# Altium integrated library Analog Devices RF IF Direct Digital Synthesis.IntLib: 76 symbols (part 2 of 9)
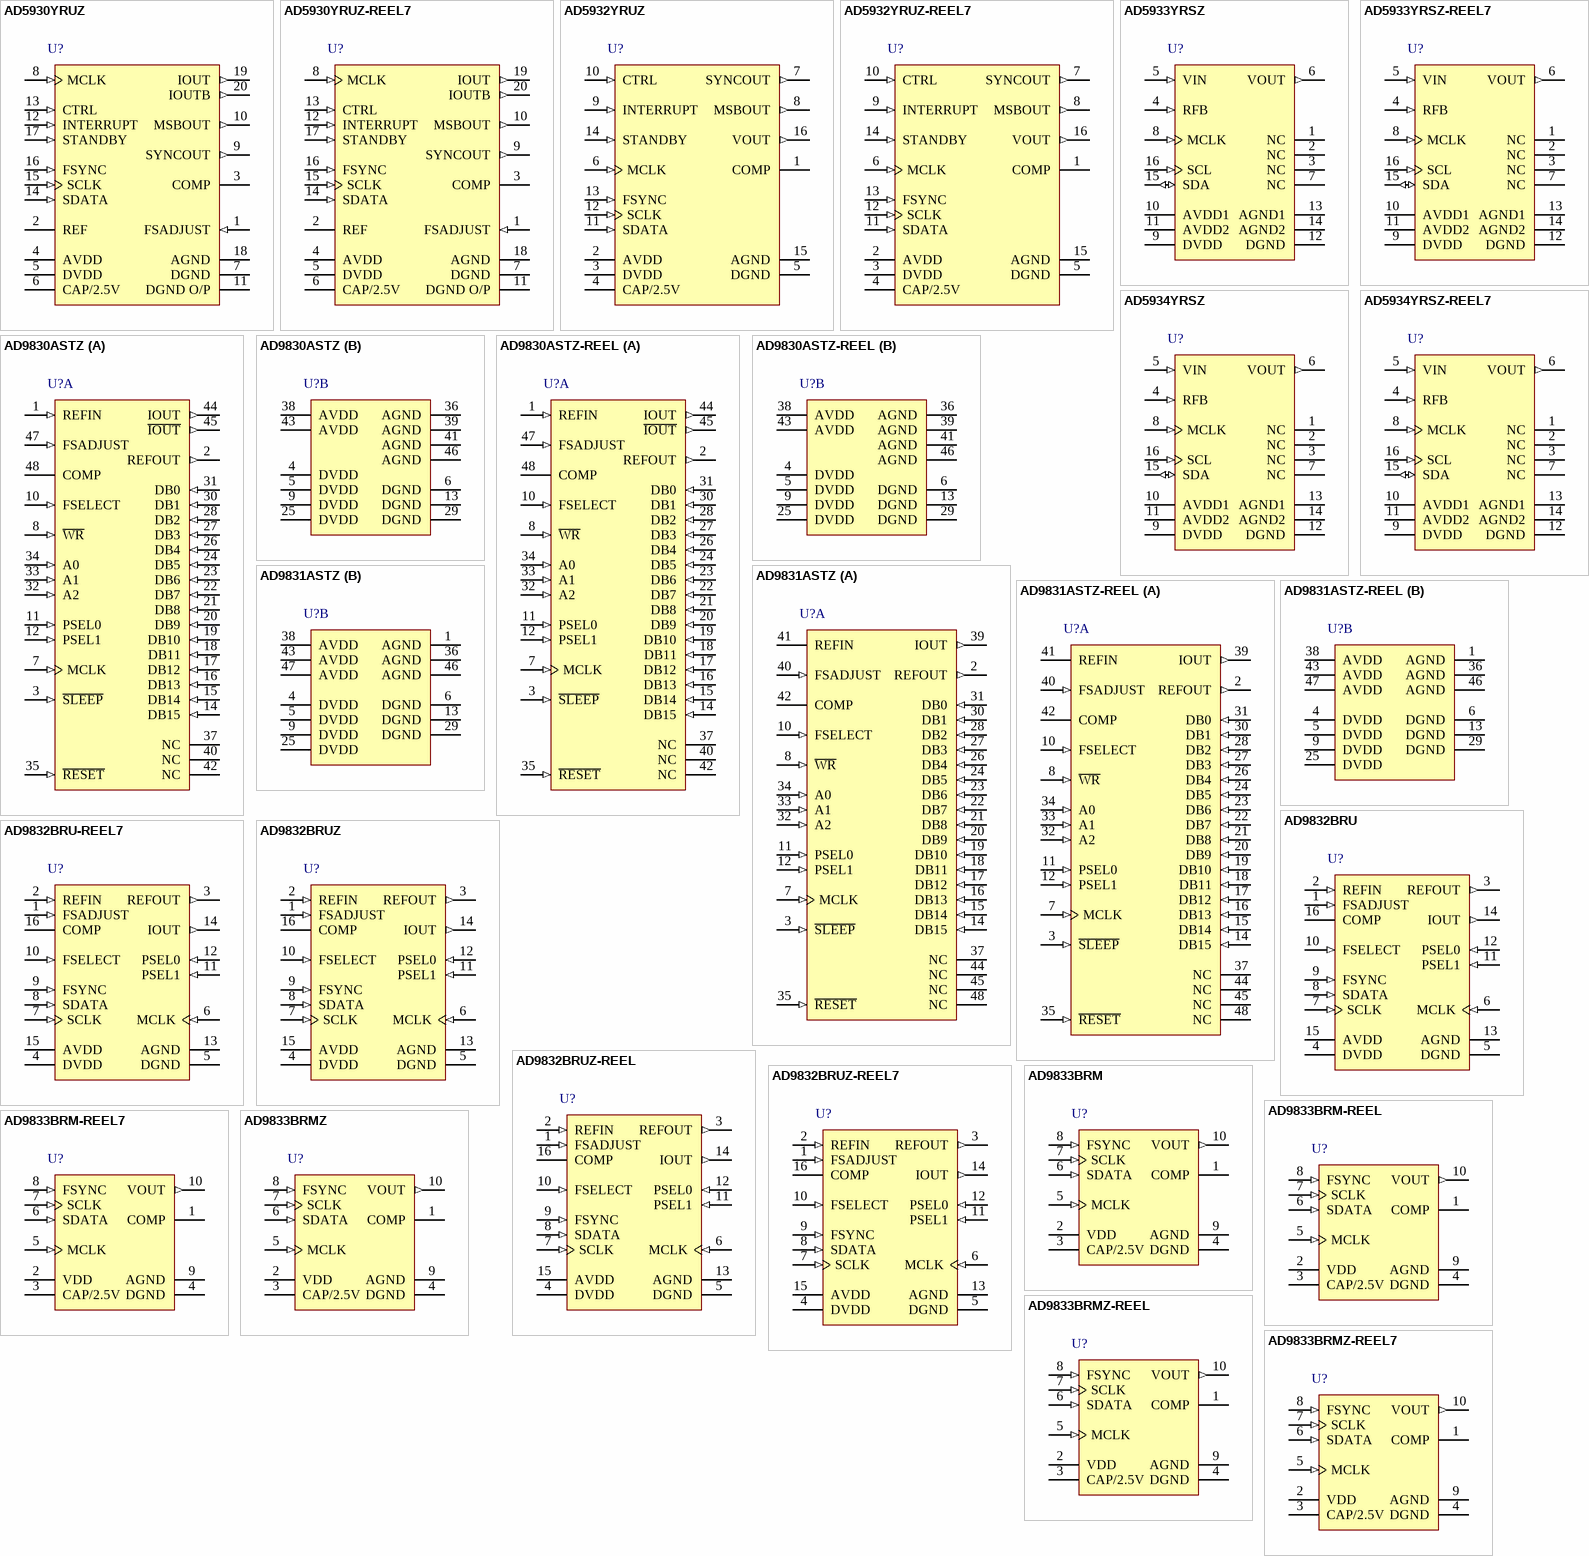
[diagram p6: symbols AD5930YRUZ to AD9833BRMZ-REEL7]

## AD9832BRU
designator U?
25 MHz Direct Digital Synthesizer, Waveform Generator, 10-Bit, Serial, RU-16, 96 Tube; Master fclk: 25MHz; Resolution (Bits): 10bit; Tuning Word Width (bits): 32bit; REFCLK Multiplier: No; Compliance Range (V): 1.35V; FS Iout (mA nom): 4mA; I Supply total (max): 15mA; DatasheetVersion: Rev. C; PackageVersion: Nov-2002; PackageReference: RU-16; PackageDescription: 16-Lead Thin Shrink Small Outline Package [TSSOP]; I/O Interface: Serial; Code_JEDEC: MO-153AB; ComponentLink1Description: Manufacturer URL; ComponentLink1URL: www.analog.com; ComponentLink2Description: Datasheet; ComponentLink2URL: http://www.analog.com/static/imported-files/data_sheets/AD9832.pdf; ComponentLink3Description: Package Specification; ComponentLink3URL: http://www.analog.com/static/imported-files/packages/36244347913743854010197452789RU16.pdf
footprint ADI-RU-16_N (TSOP, 16-Leads, Body 5x4.4mm, Pitch 0.65mm, IPC Medium Density)
footprint ADI-RU-16_L (TSOP, 16-Leads, Body 5x4.4mm, Pitch 0.65mm, IPC High Density)
footprint ADI-RU-16_M (TSOP, 16-Leads, Body 5x4.4mm, Pitch 0.65mm, IPC Low Density)
pins: 1 FSADJUST (in) "Full-Scale Adjust Control. A resistor (RSET) is connected between this pin and AGND. This determines the  magnitude of the full-scale DAC current. [see datasheet]", 2 REFIN (in) "Voltage Reference Input. The AD9832 can be used with either the on-board reference, which is available from   the REFOUT pin, or an external reference. [see datasheet]", 3 REFOUT (out) "Voltage Reference Output. The AD9832 has an on-board reference of value 1.21 V nominal. The reference is  available on the REFOUT pin. [see datasheet]", 4 DVDD (power) "Positive Power Supply for the Digital Section. A 0.1 uF decoupling capacitor should be connected between   DVDD and DGND. DVDD can have a value of 5 V +/- 10% or 3.3 V +/- 0%", 5 DGND (power) "Digital Ground", 6 MCLK (in) "Digital Clock Input. DDS output frequencies are expressed as a binary fraction of the frequency of MCLK. This  clock determines the output frequency accuracy and phase noise", 7 SCLK (in) "Serial Clock, Logic Input. Data is clocked into the AD9832 on each falling SCLK edge.", 8 SDATA (in) "Serial Data In, Logic Input. The 16-bit serial data-word is applied to this input.", 9 FSYNC (in) "Data Synchronization Signal, Logic Input. When this input goes low, the internal logic is informed that  a new word is being loaded into the devic", 10 FSELECT (in) "Frequency Select Input. FSELECT controls which frequency register, FREQ0 or FREQ1, is used in the phase  accumulator. The frequency register to be used can be selected using the FSELECT pin or the FSELECT bit. [see datasheet]", 11 PSEL1 (in) "Phase Select Input. The AD9832 has four phase registers. These registers can be used to alter the value being  input to the SIN ROM. [see datasheet]", 12 PSEL0 (in) "Phase Select Input. The AD9832 has four phase registers. These registers can be used to alter the value being  input to the SIN ROM. [see datasheet]", 13 AGND (power) "Analog Ground", 14 IOUT (out) "Current Output. This is a high impedance current source. A load resistor should be connected between IOUT and AGN", 15 AVDD (power) "Positive Power Supply for the Analog Section. A 0.1 uF decoupling capacitor should be connected between  AVDD and AGND. AVDD can have a value of 5 V +/- 10% or 3.3 V +/- 10", 16 COMP "Compensation Pin. This is a compensation pin for the internal reference amplifier. A 10 nF decoupling ceramic capacitor should be connected between COMP and AVDD."

## AD9832BRU-REEL7
designator U?
25 MHz Direct Digital Synthesizer, Waveform Generator, 10-Bit, Serial, RU-16, 1000 Reel; Master fclk: 25MHz; Resolution (Bits): 10bit; Tuning Word Width (bits): 32bit; REFCLK Multiplier: No; Compliance Range (V): 1.35V; FS Iout (mA nom): 4mA; I Supply total (max): 15mA; DatasheetVersion: Rev. C; PackageVersion: Nov-2002; PackageReference: RU-16; PackageDescription: 16-Lead Thin Shrink Small Outline Package [TSSOP]; I/O Interface: Serial; Code_JEDEC: MO-153AB; ComponentLink1Description: Manufacturer URL; ComponentLink1URL: www.analog.com; ComponentLink2Description: Datasheet; ComponentLink2URL: http://www.analog.com/static/imported-files/data_sheets/AD9832.pdf; ComponentLink3Description: Package Specification; ComponentLink3URL: http://www.analog.com/static/imported-files/packages/36244347913743854010197452789RU16.pdf
footprint ADI-RU-16_N (TSOP, 16-Leads, Body 5x4.4mm, Pitch 0.65mm, IPC Medium Density)
footprint ADI-RU-16_L (TSOP, 16-Leads, Body 5x4.4mm, Pitch 0.65mm, IPC High Density)
footprint ADI-RU-16_M (TSOP, 16-Leads, Body 5x4.4mm, Pitch 0.65mm, IPC Low Density)
pins: 1 FSADJUST (in) "Full-Scale Adjust Control. A resistor (RSET) is connected between this pin and AGND. This determines the  magnitude of the full-scale DAC current. [see datasheet]", 2 REFIN (in) "Voltage Reference Input. The AD9832 can be used with either the on-board reference, which is available from   the REFOUT pin, or an external reference. [see datasheet]", 3 REFOUT (out) "Voltage Reference Output. The AD9832 has an on-board reference of value 1.21 V nominal. The reference is  available on the REFOUT pin. [see datasheet]", 4 DVDD (power) "Positive Power Supply for the Digital Section. A 0.1 uF decoupling capacitor should be connected between   DVDD and DGND. DVDD can have a value of 5 V +/- 10% or 3.3 V +/- 0%", 5 DGND (power) "Digital Ground", 6 MCLK (in) "Digital Clock Input. DDS output frequencies are expressed as a binary fraction of the frequency of MCLK. This  clock determines the output frequency accuracy and phase noise", 7 SCLK (in) "Serial Clock, Logic Input. Data is clocked into the AD9832 on each falling SCLK edge.", 8 SDATA (in) "Serial Data In, Logic Input. The 16-bit serial data-word is applied to this input.", 9 FSYNC (in) "Data Synchronization Signal, Logic Input. When this input goes low, the internal logic is informed that  a new word is being loaded into the devic", 10 FSELECT (in) "Frequency Select Input. FSELECT controls which frequency register, FREQ0 or FREQ1, is used in the phase  accumulator. The frequency register to be used can be selected using the FSELECT pin or the FSELECT bit. [see datasheet]", 11 PSEL1 (in) "Phase Select Input. The AD9832 has four phase registers. These registers can be used to alter the value being  input to the SIN ROM. [see datasheet]", 12 PSEL0 (in) "Phase Select Input. The AD9832 has four phase registers. These registers can be used to alter the value being  input to the SIN ROM. [see datasheet]", 13 AGND (power) "Analog Ground", 14 IOUT (out) "Current Output. This is a high impedance current source. A load resistor should be connected between IOUT and AGN", 15 AVDD (power) "Positive Power Supply for the Analog Section. A 0.1 uF decoupling capacitor should be connected between  AVDD and AGND. AVDD can have a value of 5 V +/- 10% or 3.3 V +/- 10", 16 COMP "Compensation Pin. This is a compensation pin for the internal reference amplifier. A 10 nF decoupling ceramic capacitor should be connected between COMP and AVDD."

## AD9832BRUZ
designator U?
25 MHz Direct Digital Synthesizer, Waveform Generator, 10-Bit, Serial, RU-16, 96 Tube, Pb-Free; Master fclk: 25MHz; Resolution (Bits): 10bit; Tuning Word Width (bits): 32bit; REFCLK Multiplier: No; Compliance Range (V): 1.35V; FS Iout (mA nom): 4mA; I Supply total (max): 15mA; DatasheetVersion: Rev. C; PackageVersion: Nov-2002; PackageReference: RU-16; PackageDescription: 16-Lead Thin Shrink Small Outline Package [TSSOP]; I/O Interface: Serial; Code_JEDEC: MO-153AB; ComponentLink1Description: Manufacturer URL; ComponentLink1URL: www.analog.com; ComponentLink2Description: Datasheet; ComponentLink2URL: http://www.analog.com/static/imported-files/data_sheets/AD9832.pdf; ComponentLink3Description: Package Specification; ComponentLink3URL: http://www.analog.com/static/imported-files/packages/36244347913743854010197452789RU16.pdf
footprint ADI-RU-16_N (TSOP, 16-Leads, Body 5x4.4mm, Pitch 0.65mm, IPC Medium Density)
footprint ADI-RU-16_L (TSOP, 16-Leads, Body 5x4.4mm, Pitch 0.65mm, IPC High Density)
footprint ADI-RU-16_M (TSOP, 16-Leads, Body 5x4.4mm, Pitch 0.65mm, IPC Low Density)
pins: 1 FSADJUST (in) "Full-Scale Adjust Control. A resistor (RSET) is connected between this pin and AGND. This determines the  magnitude of the full-scale DAC current. [see datasheet]", 2 REFIN (in) "Voltage Reference Input. The AD9832 can be used with either the on-board reference, which is available from   the REFOUT pin, or an external reference. [see datasheet]", 3 REFOUT (out) "Voltage Reference Output. The AD9832 has an on-board reference of value 1.21 V nominal. The reference is  available on the REFOUT pin. [see datasheet]", 4 DVDD (power) "Positive Power Supply for the Digital Section. A 0.1 uF decoupling capacitor should be connected between   DVDD and DGND. DVDD can have a value of 5 V +/- 10% or 3.3 V +/- 0%", 5 DGND (power) "Digital Ground", 6 MCLK (in) "Digital Clock Input. DDS output frequencies are expressed as a binary fraction of the frequency of MCLK. This  clock determines the output frequency accuracy and phase noise", 7 SCLK (in) "Serial Clock, Logic Input. Data is clocked into the AD9832 on each falling SCLK edge.", 8 SDATA (in) "Serial Data In, Logic Input. The 16-bit serial data-word is applied to this input.", 9 FSYNC (in) "Data Synchronization Signal, Logic Input. When this input goes low, the internal logic is informed that  a new word is being loaded into the devic", 10 FSELECT (in) "Frequency Select Input. FSELECT controls which frequency register, FREQ0 or FREQ1, is used in the phase  accumulator. The frequency register to be used can be selected using the FSELECT pin or the FSELECT bit. [see datasheet]", 11 PSEL1 (in) "Phase Select Input. The AD9832 has four phase registers. These registers can be used to alter the value being  input to the SIN ROM. [see datasheet]", 12 PSEL0 (in) "Phase Select Input. The AD9832 has four phase registers. These registers can be used to alter the value being  input to the SIN ROM. [see datasheet]", 13 AGND (power) "Analog Ground", 14 IOUT (out) "Current Output. This is a high impedance current source. A load resistor should be connected between IOUT and AGN", 15 AVDD (power) "Positive Power Supply for the Analog Section. A 0.1 uF decoupling capacitor should be connected between  AVDD and AGND. AVDD can have a value of 5 V +/- 10% or 3.3 V +/- 10", 16 COMP "Compensation Pin. This is a compensation pin for the internal reference amplifier. A 10 nF decoupling ceramic capacitor should be connected between COMP and AVDD."

## AD9832BRUZ-REEL
designator U?
25 MHz Direct Digital Synthesizer, Waveform Generator, 10-Bit, Serial, RU-16, 2500 Reel, Pb-Free; Master fclk: 25MHz; Resolution (Bits): 10bit; Tuning Word Width (bits): 32bit; REFCLK Multiplier: No; Compliance Range (V): 1.35V; FS Iout (mA nom): 4mA; I Supply total (max): 15mA; DatasheetVersion: Rev. C; PackageVersion: Nov-2002; PackageReference: RU-16; PackageDescription: 16-Lead Thin Shrink Small Outline Package [TSSOP]; I/O Interface: Serial; Code_JEDEC: MO-153AB; ComponentLink1Description: Manufacturer URL; ComponentLink1URL: www.analog.com; ComponentLink2Description: Datasheet; ComponentLink2URL: http://www.analog.com/static/imported-files/data_sheets/AD9832.pdf; ComponentLink3Description: Package Specification; ComponentLink3URL: http://www.analog.com/static/imported-files/packages/36244347913743854010197452789RU16.pdf
footprint ADI-RU-16_N (TSOP, 16-Leads, Body 5x4.4mm, Pitch 0.65mm, IPC Medium Density)
footprint ADI-RU-16_L (TSOP, 16-Leads, Body 5x4.4mm, Pitch 0.65mm, IPC High Density)
footprint ADI-RU-16_M (TSOP, 16-Leads, Body 5x4.4mm, Pitch 0.65mm, IPC Low Density)
pins: 1 FSADJUST (in) "Full-Scale Adjust Control. A resistor (RSET) is connected between this pin and AGND. This determines the  magnitude of the full-scale DAC current. [see datasheet]", 2 REFIN (in) "Voltage Reference Input. The AD9832 can be used with either the on-board reference, which is available from   the REFOUT pin, or an external reference. [see datasheet]", 3 REFOUT (out) "Voltage Reference Output. The AD9832 has an on-board reference of value 1.21 V nominal. The reference is  available on the REFOUT pin. [see datasheet]", 4 DVDD (power) "Positive Power Supply for the Digital Section. A 0.1 uF decoupling capacitor should be connected between   DVDD and DGND. DVDD can have a value of 5 V +/- 10% or 3.3 V +/- 0%", 5 DGND (power) "Digital Ground", 6 MCLK (in) "Digital Clock Input. DDS output frequencies are expressed as a binary fraction of the frequency of MCLK. This  clock determines the output frequency accuracy and phase noise", 7 SCLK (in) "Serial Clock, Logic Input. Data is clocked into the AD9832 on each falling SCLK edge.", 8 SDATA (in) "Serial Data In, Logic Input. The 16-bit serial data-word is applied to this input.", 9 FSYNC (in) "Data Synchronization Signal, Logic Input. When this input goes low, the internal logic is informed that  a new word is being loaded into the devic", 10 FSELECT (in) "Frequency Select Input. FSELECT controls which frequency register, FREQ0 or FREQ1, is used in the phase  accumulator. The frequency register to be used can be selected using the FSELECT pin or the FSELECT bit. [see datasheet]", 11 PSEL1 (in) "Phase Select Input. The AD9832 has four phase registers. These registers can be used to alter the value being  input to the SIN ROM. [see datasheet]", 12 PSEL0 (in) "Phase Select Input. The AD9832 has four phase registers. These registers can be used to alter the value being  input to the SIN ROM. [see datasheet]", 13 AGND (power) "Analog Ground", 14 IOUT (out) "Current Output. This is a high impedance current source. A load resistor should be connected between IOUT and AGN", 15 AVDD (power) "Positive Power Supply for the Analog Section. A 0.1 uF decoupling capacitor should be connected between  AVDD and AGND. AVDD can have a value of 5 V +/- 10% or 3.3 V +/- 10", 16 COMP "Compensation Pin. This is a compensation pin for the internal reference amplifier. A 10 nF decoupling ceramic capacitor should be connected between COMP and AVDD."

## AD9832BRUZ-REEL7
designator U?
25 MHz Direct Digital Synthesizer, Waveform Generator, 10-Bit, Serial, RU-16, 1000 Reel, Pb-Free; Master fclk: 25MHz; Resolution (Bits): 10bit; Tuning Word Width (bits): 32bit; REFCLK Multiplier: No; Compliance Range (V): 1.35V; FS Iout (mA nom): 4mA; I Supply total (max): 15mA; DatasheetVersion: Rev. C; PackageVersion: Nov-2002; PackageReference: RU-16; PackageDescription: 16-Lead Thin Shrink Small Outline Package [TSSOP]; I/O Interface: Serial; Code_JEDEC: MO-153AB; ComponentLink1Description: Manufacturer URL; ComponentLink1URL: www.analog.com; ComponentLink2Description: Datasheet; ComponentLink2URL: http://www.analog.com/static/imported-files/data_sheets/AD9832.pdf; ComponentLink3Description: Package Specification; ComponentLink3URL: http://www.analog.com/static/imported-files/packages/36244347913743854010197452789RU16.pdf
footprint ADI-RU-16_N (TSOP, 16-Leads, Body 5x4.4mm, Pitch 0.65mm, IPC Medium Density)
footprint ADI-RU-16_L (TSOP, 16-Leads, Body 5x4.4mm, Pitch 0.65mm, IPC High Density)
footprint ADI-RU-16_M (TSOP, 16-Leads, Body 5x4.4mm, Pitch 0.65mm, IPC Low Density)
pins: 1 FSADJUST (in) "Full-Scale Adjust Control. A resistor (RSET) is connected between this pin and AGND. This determines the  magnitude of the full-scale DAC current. [see datasheet]", 2 REFIN (in) "Voltage Reference Input. The AD9832 can be used with either the on-board reference, which is available from   the REFOUT pin, or an external reference. [see datasheet]", 3 REFOUT (out) "Voltage Reference Output. The AD9832 has an on-board reference of value 1.21 V nominal. The reference is  available on the REFOUT pin. [see datasheet]", 4 DVDD (power) "Positive Power Supply for the Digital Section. A 0.1 uF decoupling capacitor should be connected between   DVDD and DGND. DVDD can have a value of 5 V +/- 10% or 3.3 V +/- 0%", 5 DGND (power) "Digital Ground", 6 MCLK (in) "Digital Clock Input. DDS output frequencies are expressed as a binary fraction of the frequency of MCLK. This  clock determines the output frequency accuracy and phase noise", 7 SCLK (in) "Serial Clock, Logic Input. Data is clocked into the AD9832 on each falling SCLK edge.", 8 SDATA (in) "Serial Data In, Logic Input. The 16-bit serial data-word is applied to this input.", 9 FSYNC (in) "Data Synchronization Signal, Logic Input. When this input goes low, the internal logic is informed that  a new word is being loaded into the devic", 10 FSELECT (in) "Frequency Select Input. FSELECT controls which frequency register, FREQ0 or FREQ1, is used in the phase  accumulator. The frequency register to be used can be selected using the FSELECT pin or the FSELECT bit. [see datasheet]", 11 PSEL1 (in) "Phase Select Input. The AD9832 has four phase registers. These registers can be used to alter the value being  input to the SIN ROM. [see datasheet]", 12 PSEL0 (in) "Phase Select Input. The AD9832 has four phase registers. These registers can be used to alter the value being  input to the SIN ROM. [see datasheet]", 13 AGND (power) "Analog Ground", 14 IOUT (out) "Current Output. This is a high impedance current source. A load resistor should be connected between IOUT and AGN", 15 AVDD (power) "Positive Power Supply for the Analog Section. A 0.1 uF decoupling capacitor should be connected between  AVDD and AGND. AVDD can have a value of 5 V +/- 10% or 3.3 V +/- 10", 16 COMP "Compensation Pin. This is a compensation pin for the internal reference amplifier. A 10 nF decoupling ceramic capacitor should be connected between COMP and AVDD."

## AD9833BRM
designator U?
Low Power, 12.65 mW, 2.3 V to 5.5 V, Programmable Waveform Generator, 10-Bit, Serial, RM-10, 50 Tube; Master fclk: 25MHz; Resolution (Bits): 10bit; Tuning Word Width (bits): 28bit; REFCLK Multiplier: No; Compliance Range (V): 650mV; FS Iout (mA nom): 3mA; I Supply total (max): 5.5mA; DatasheetVersion: Rev. D; PackageVersion: 5/8/2005; PackageReference: RM-10; PackageDescription: 10-Lead Mini Small Outline Package [MSOP]; I/O Interface: Serial; Code_JEDEC: MO-187-BA; ComponentLink1Description: Manufacturer URL; ComponentLink1URL: www.analog.com; ComponentLink2Description: Datasheet; ComponentLink2URL: http://www.analog.com/static/imported-files/data_sheets/AD9833.pdf; ComponentLink3Description: Package Specification; ComponentLink3URL: http://www.analog.com/static/imported-files/packages/PKG_PDF/MSOP%28RM%29/RM_10.pdf
footprint ADI-RM-10_N (TSSOP, 10-Leads, Body 3x3mm, Pitch 0.5mm, IPC Medium Density)
footprint ADI-RM-10_L (TSSOP, 10-Leads, Body 3x3mm, Pitch 0.5mm, IPC High Density)
footprint ADI-RM-10_M (TSSOP, 10-Leads, Body 3x3mm, Pitch 0.5mm, IPC Low Density)
pins: 1 COMP "DAC Bias Pin. This pin is used for decoupling the DAC bias voltage.", 2 VDD (power) "Positive Power Supply for the Analog and Digital Interface Sections. The on-board 2.5 V regulator is also supplied from VDD. VDD can have a value from 2.3 V to 5.5 V. [see datasheet]", 3 CAP/2.5V (power) "The digital circuitry operates from a 2.5 V power supply. This 2.5 V is generated from VDD using an on-board regulator when VDD exceeds 2.7 V. [see datasheet]", 4 DGND (power) "Digital Ground.", 5 MCLK (in) "Digital Clock Input. DDS output frequencies are expressed as a binary fraction of the frequency of MCLK. The output frequency accuracy and phase noise are determined by this clock.", 6 SDATA (in) "Serial Data Input. The 16-bit serial data-word is applied to this input.", 7 SCLK (in) "Serial Clock Input. Data is clocked into the AD9833 on each falling edge of SCLK.", 8 FSYNC (in) "Active Low Control Input. FSYNC is the frame synchronization signal for the input data. When FSYNC is taken low, the internal logic is informed that a new word is being loaded into the device. [see datasheet]", 9 AGND (power) "Analog Ground.", 10 VOUT (out) "Voltage Output. The analog and digital output from the AD9833 is available at this pin. An external load resistor is not required because the device has a 200  ohm resistor on board."

## AD9833BRM-REEL
designator U?
Low Power, 12.65 mW, 2.3 V to 5.5 V, Programmable Waveform Generator, 10-Bit, Serial, RM-10, 3000 Reel; Master fclk: 25MHz; Resolution (Bits): 10bit; Tuning Word Width (bits): 28bit; REFCLK Multiplier: No; Compliance Range (V): 650mV; FS Iout (mA nom): 3mA; I Supply total (max): 5.5mA; DatasheetVersion: Rev. D; PackageVersion: 5/8/2005; PackageReference: RM-10; PackageDescription: 10-Lead Mini Small Outline Package [MSOP]; I/O Interface: Serial; Code_JEDEC: MO-187-BA; ComponentLink1Description: Manufacturer URL; ComponentLink1URL: www.analog.com; ComponentLink2Description: Datasheet; ComponentLink2URL: http://www.analog.com/static/imported-files/data_sheets/AD9833.pdf; ComponentLink3Description: Package Specification; ComponentLink3URL: http://www.analog.com/static/imported-files/packages/PKG_PDF/MSOP%28RM%29/RM_10.pdf
footprint ADI-RM-10_N (TSSOP, 10-Leads, Body 3x3mm, Pitch 0.5mm, IPC Medium Density)
footprint ADI-RM-10_L (TSSOP, 10-Leads, Body 3x3mm, Pitch 0.5mm, IPC High Density)
footprint ADI-RM-10_M (TSSOP, 10-Leads, Body 3x3mm, Pitch 0.5mm, IPC Low Density)
pins: 1 COMP "DAC Bias Pin. This pin is used for decoupling the DAC bias voltage.", 2 VDD (power) "Positive Power Supply for the Analog and Digital Interface Sections. The on-board 2.5 V regulator is also supplied from VDD. VDD can have a value from 2.3 V to 5.5 V. [see datasheet]", 3 CAP/2.5V (power) "The digital circuitry operates from a 2.5 V power supply. This 2.5 V is generated from VDD using an on-board regulator when VDD exceeds 2.7 V. [see datasheet]", 4 DGND (power) "Digital Ground.", 5 MCLK (in) "Digital Clock Input. DDS output frequencies are expressed as a binary fraction of the frequency of MCLK. The output frequency accuracy and phase noise are determined by this clock.", 6 SDATA (in) "Serial Data Input. The 16-bit serial data-word is applied to this input.", 7 SCLK (in) "Serial Clock Input. Data is clocked into the AD9833 on each falling edge of SCLK.", 8 FSYNC (in) "Active Low Control Input. FSYNC is the frame synchronization signal for the input data. When FSYNC is taken low, the internal logic is informed that a new word is being loaded into the device. [see datasheet]", 9 AGND (power) "Analog Ground.", 10 VOUT (out) "Voltage Output. The analog and digital output from the AD9833 is available at this pin. An external load resistor is not required because the device has a 200  ohm resistor on board."

## AD9833BRM-REEL7
designator U?
Low Power, 12.65 mW, 2.3 V to 5.5 V, Programmable Waveform Generator, 10-Bit, Serial, RM-10, 1000 Reel; Master fclk: 25MHz; Resolution (Bits): 10bit; Tuning Word Width (bits): 28bit; REFCLK Multiplier: No; Compliance Range (V): 650mV; FS Iout (mA nom): 3mA; I Supply total (max): 5.5mA; DatasheetVersion: Rev. D; PackageVersion: 5/8/2005; PackageReference: RM-10; PackageDescription: 10-Lead Mini Small Outline Package [MSOP]; I/O Interface: Serial; Code_JEDEC: MO-187-BA; ComponentLink1Description: Manufacturer URL; ComponentLink1URL: www.analog.com; ComponentLink2Description: Datasheet; ComponentLink2URL: http://www.analog.com/static/imported-files/data_sheets/AD9833.pdf; ComponentLink3Description: Package Specification; ComponentLink3URL: http://www.analog.com/static/imported-files/packages/PKG_PDF/MSOP%28RM%29/RM_10.pdf
footprint ADI-RM-10_N (TSSOP, 10-Leads, Body 3x3mm, Pitch 0.5mm, IPC Medium Density)
footprint ADI-RM-10_L (TSSOP, 10-Leads, Body 3x3mm, Pitch 0.5mm, IPC High Density)
footprint ADI-RM-10_M (TSSOP, 10-Leads, Body 3x3mm, Pitch 0.5mm, IPC Low Density)
pins: 1 COMP "DAC Bias Pin. This pin is used for decoupling the DAC bias voltage.", 2 VDD (power) "Positive Power Supply for the Analog and Digital Interface Sections. The on-board 2.5 V regulator is also supplied from VDD. VDD can have a value from 2.3 V to 5.5 V. [see datasheet]", 3 CAP/2.5V (power) "The digital circuitry operates from a 2.5 V power supply. This 2.5 V is generated from VDD using an on-board regulator when VDD exceeds 2.7 V. [see datasheet]", 4 DGND (power) "Digital Ground.", 5 MCLK (in) "Digital Clock Input. DDS output frequencies are expressed as a binary fraction of the frequency of MCLK. The output frequency accuracy and phase noise are determined by this clock.", 6 SDATA (in) "Serial Data Input. The 16-bit serial data-word is applied to this input.", 7 SCLK (in) "Serial Clock Input. Data is clocked into the AD9833 on each falling edge of SCLK.", 8 FSYNC (in) "Active Low Control Input. FSYNC is the frame synchronization signal for the input data. When FSYNC is taken low, the internal logic is informed that a new word is being loaded into the device. [see datasheet]", 9 AGND (power) "Analog Ground.", 10 VOUT (out) "Voltage Output. The analog and digital output from the AD9833 is available at this pin. An external load resistor is not required because the device has a 200  ohm resistor on board."

## AD9833BRMZ
designator U?
Low Power, 12.65 mW, 2.3 V to 5.5 V, Programmable Waveform Generator, 10-Bit, Serial, RM-10, 50 Tube, Pb-Free; Master fclk: 25MHz; Resolution (Bits): 10bit; Tuning Word Width (bits): 28bit; REFCLK Multiplier: No; Compliance Range (V): 650mV; FS Iout (mA nom): 3mA; I Supply total (max): 5.5mA; DatasheetVersion: Rev. D; PackageVersion: 5/8/2005; PackageReference: RM-10; PackageDescription: 10-Lead Mini Small Outline Package [MSOP]; I/O Interface: Serial; Code_JEDEC: MO-187-BA; ComponentLink1Description: Manufacturer URL; ComponentLink1URL: www.analog.com; ComponentLink2Description: Datasheet; ComponentLink2URL: http://www.analog.com/static/imported-files/data_sheets/AD9833.pdf; ComponentLink3Description: Package Specification; ComponentLink3URL: http://www.analog.com/static/imported-files/packages/PKG_PDF/MSOP%28RM%29/RM_10.pdf
footprint ADI-RM-10_N (TSSOP, 10-Leads, Body 3x3mm, Pitch 0.5mm, IPC Medium Density)
footprint ADI-RM-10_L (TSSOP, 10-Leads, Body 3x3mm, Pitch 0.5mm, IPC High Density)
footprint ADI-RM-10_M (TSSOP, 10-Leads, Body 3x3mm, Pitch 0.5mm, IPC Low Density)
pins: 1 COMP "DAC Bias Pin. This pin is used for decoupling the DAC bias voltage.", 2 VDD (power) "Positive Power Supply for the Analog and Digital Interface Sections. The on-board 2.5 V regulator is also supplied from VDD. VDD can have a value from 2.3 V to 5.5 V. [see datasheet]", 3 CAP/2.5V (power) "The digital circuitry operates from a 2.5 V power supply. This 2.5 V is generated from VDD using an on-board regulator when VDD exceeds 2.7 V. [see datasheet]", 4 DGND (power) "Digital Ground.", 5 MCLK (in) "Digital Clock Input. DDS output frequencies are expressed as a binary fraction of the frequency of MCLK. The output frequency accuracy and phase noise are determined by this clock.", 6 SDATA (in) "Serial Data Input. The 16-bit serial data-word is applied to this input.", 7 SCLK (in) "Serial Clock Input. Data is clocked into the AD9833 on each falling edge of SCLK.", 8 FSYNC (in) "Active Low Control Input. FSYNC is the frame synchronization signal for the input data. When FSYNC is taken low, the internal logic is informed that a new word is being loaded into the device. [see datasheet]", 9 AGND (power) "Analog Ground.", 10 VOUT (out) "Voltage Output. The analog and digital output from the AD9833 is available at this pin. An external load resistor is not required because the device has a 200  ohm resistor on board."

## AD9833BRMZ-REEL
designator U?
Low Power, 12.65 mW, 2.3 V to 5.5 V, Programmable Waveform Generator, 10-Bit, Serial, RM-10, 3000 Reel, Pb-Free; Master fclk: 25MHz; Resolution (Bits): 10bit; Tuning Word Width (bits): 28bit; REFCLK Multiplier: No; Compliance Range (V): 650mV; FS Iout (mA nom): 3mA; I Supply total (max): 5.5mA; DatasheetVersion: Rev. D; PackageVersion: 5/8/2005; PackageReference: RM-10; PackageDescription: 10-Lead Mini Small Outline Package [MSOP]; I/O Interface: Serial; Code_JEDEC: MO-187-BA; ComponentLink1Description: Manufacturer URL; ComponentLink1URL: www.analog.com; ComponentLink2Description: Datasheet; ComponentLink2URL: http://www.analog.com/static/imported-files/data_sheets/AD9833.pdf; ComponentLink3Description: Package Specification; ComponentLink3URL: http://www.analog.com/static/imported-files/packages/PKG_PDF/MSOP%28RM%29/RM_10.pdf
footprint ADI-RM-10_N (TSSOP, 10-Leads, Body 3x3mm, Pitch 0.5mm, IPC Medium Density)
footprint ADI-RM-10_L (TSSOP, 10-Leads, Body 3x3mm, Pitch 0.5mm, IPC High Density)
footprint ADI-RM-10_M (TSSOP, 10-Leads, Body 3x3mm, Pitch 0.5mm, IPC Low Density)
pins: 1 COMP "DAC Bias Pin. This pin is used for decoupling the DAC bias voltage.", 2 VDD (power) "Positive Power Supply for the Analog and Digital Interface Sections. The on-board 2.5 V regulator is also supplied from VDD. VDD can have a value from 2.3 V to 5.5 V. [see datasheet]", 3 CAP/2.5V (power) "The digital circuitry operates from a 2.5 V power supply. This 2.5 V is generated from VDD using an on-board regulator when VDD exceeds 2.7 V. [see datasheet]", 4 DGND (power) "Digital Ground.", 5 MCLK (in) "Digital Clock Input. DDS output frequencies are expressed as a binary fraction of the frequency of MCLK. The output frequency accuracy and phase noise are determined by this clock.", 6 SDATA (in) "Serial Data Input. The 16-bit serial data-word is applied to this input.", 7 SCLK (in) "Serial Clock Input. Data is clocked into the AD9833 on each falling edge of SCLK.", 8 FSYNC (in) "Active Low Control Input. FSYNC is the frame synchronization signal for the input data. When FSYNC is taken low, the internal logic is informed that a new word is being loaded into the device. [see datasheet]", 9 AGND (power) "Analog Ground.", 10 VOUT (out) "Voltage Output. The analog and digital output from the AD9833 is available at this pin. An external load resistor is not required because the device has a 200  ohm resistor on board."

## AD9833BRMZ-REEL7
designator U?
Low Power, 12.65 mW, 2.3 V to 5.5 V, Programmable Waveform Generator, 10-Bit, Serial, RM-10, 1000 Reel, Pb-Free; Master fclk: 25MHz; Resolution (Bits): 10bit; Tuning Word Width (bits): 28bit; REFCLK Multiplier: No; Compliance Range (V): 650mV; FS Iout (mA nom): 3mA; I Supply total (max): 5.5mA; DatasheetVersion: Rev. D; PackageVersion: 5/8/2005; PackageReference: RM-10; PackageDescription: 10-Lead Mini Small Outline Package [MSOP]; I/O Interface: Serial; Code_JEDEC: MO-187-BA; ComponentLink1Description: Manufacturer URL; ComponentLink1URL: www.analog.com; ComponentLink2Description: Datasheet; ComponentLink2URL: http://www.analog.com/static/imported-files/data_sheets/AD9833.pdf; ComponentLink3Description: Package Specification; ComponentLink3URL: http://www.analog.com/static/imported-files/packages/PKG_PDF/MSOP%28RM%29/RM_10.pdf
footprint ADI-RM-10_N (TSSOP, 10-Leads, Body 3x3mm, Pitch 0.5mm, IPC Medium Density)
footprint ADI-RM-10_L (TSSOP, 10-Leads, Body 3x3mm, Pitch 0.5mm, IPC High Density)
footprint ADI-RM-10_M (TSSOP, 10-Leads, Body 3x3mm, Pitch 0.5mm, IPC Low Density)
pins: 1 COMP "DAC Bias Pin. This pin is used for decoupling the DAC bias voltage.", 2 VDD (power) "Positive Power Supply for the Analog and Digital Interface Sections. The on-board 2.5 V regulator is also supplied from VDD. VDD can have a value from 2.3 V to 5.5 V. [see datasheet]", 3 CAP/2.5V (power) "The digital circuitry operates from a 2.5 V power supply. This 2.5 V is generated from VDD using an on-board regulator when VDD exceeds 2.7 V. [see datasheet]", 4 DGND (power) "Digital Ground.", 5 MCLK (in) "Digital Clock Input. DDS output frequencies are expressed as a binary fraction of the frequency of MCLK. The output frequency accuracy and phase noise are determined by this clock.", 6 SDATA (in) "Serial Data Input. The 16-bit serial data-word is applied to this input.", 7 SCLK (in) "Serial Clock Input. Data is clocked into the AD9833 on each falling edge of SCLK.", 8 FSYNC (in) "Active Low Control Input. FSYNC is the frame synchronization signal for the input data. When FSYNC is taken low, the internal logic is informed that a new word is being loaded into the device. [see datasheet]", 9 AGND (power) "Analog Ground.", 10 VOUT (out) "Voltage Output. The analog and digital output from the AD9833 is available at this pin. An external load resistor is not required because the device has a 200  ohm resistor on board."

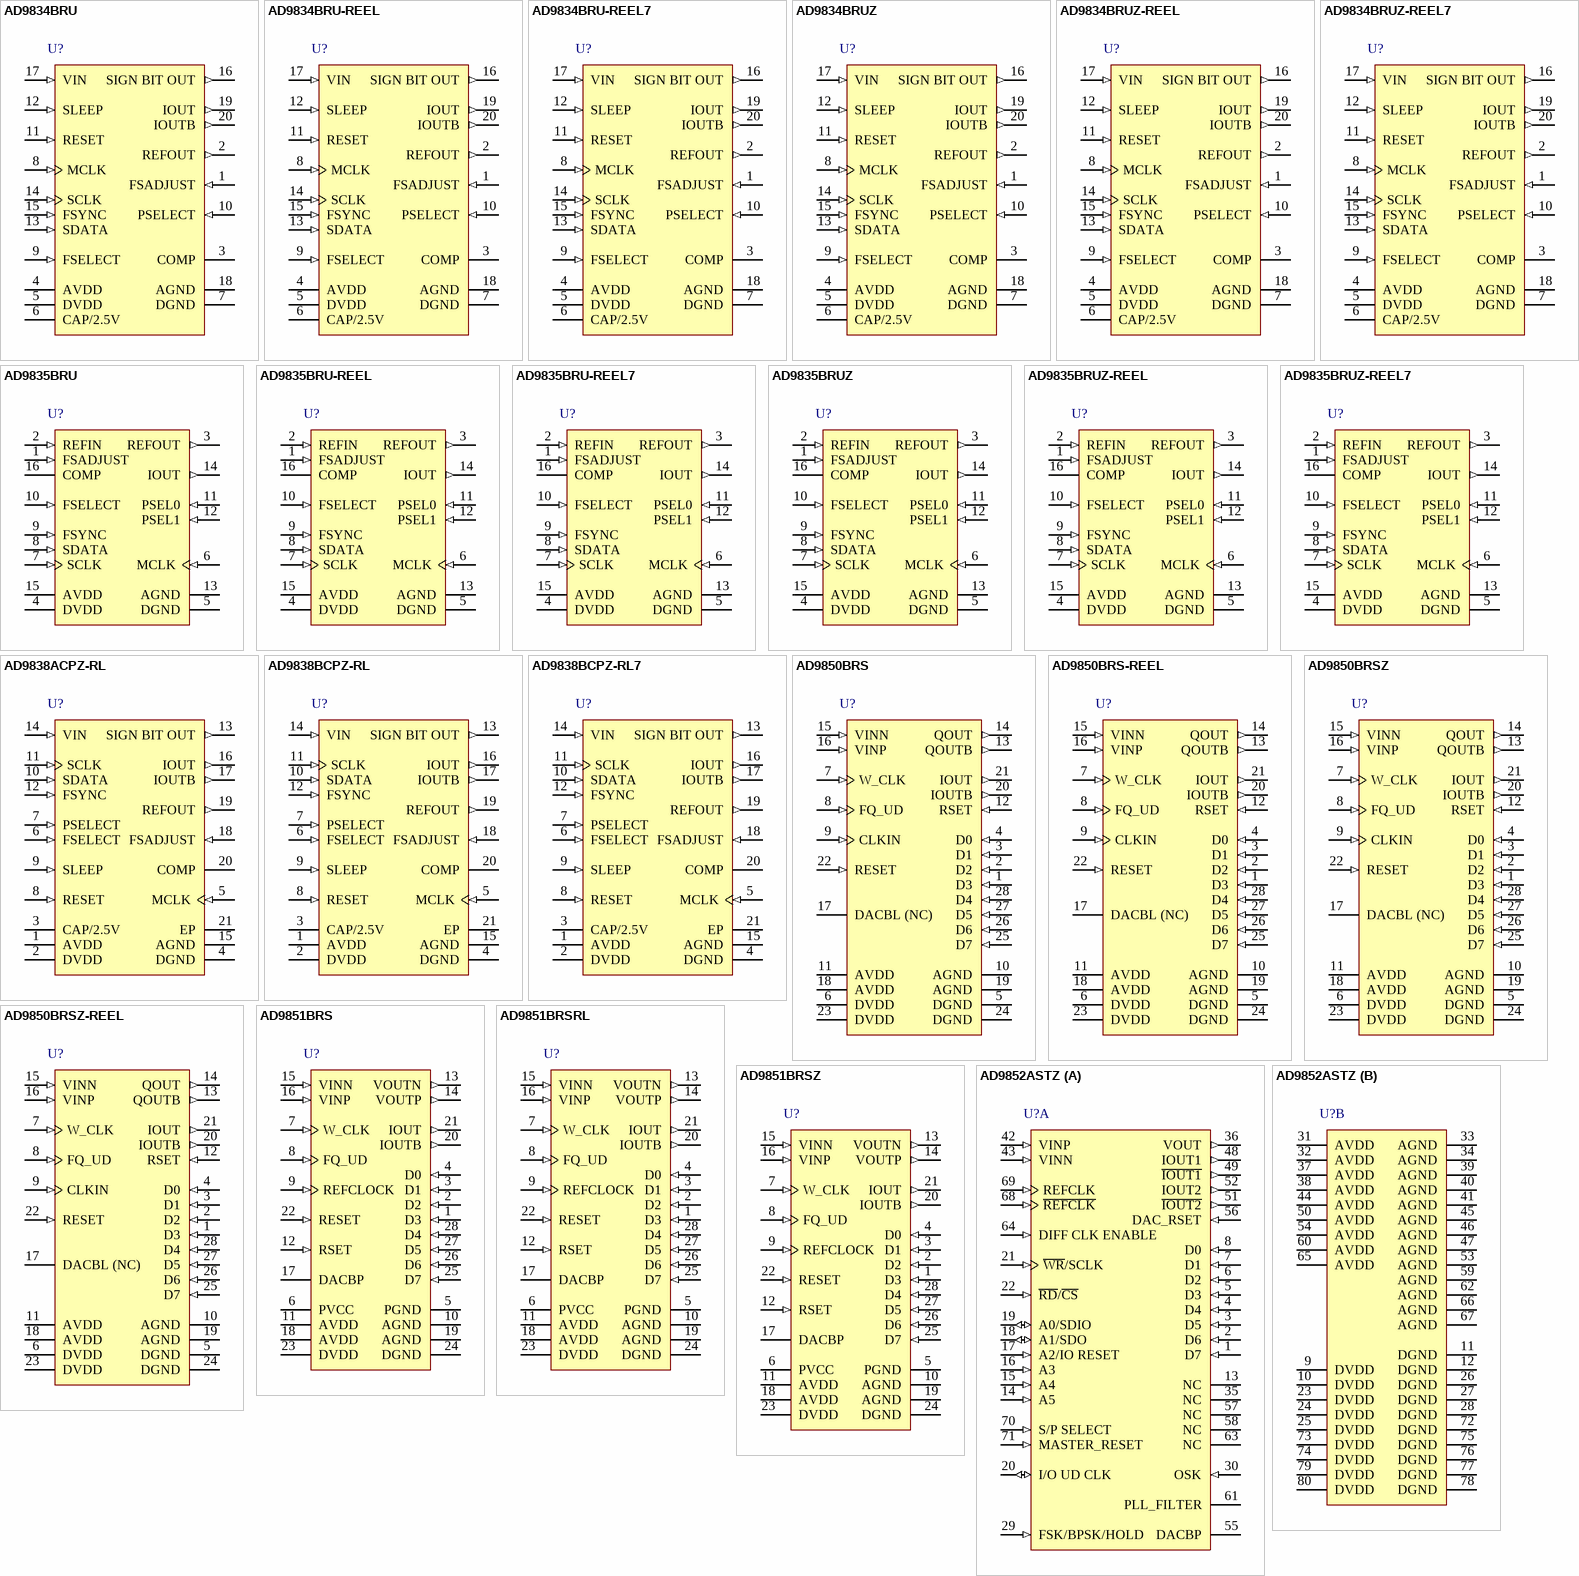
[diagram p1: symbols AD9834BRU to AD9852ASTZ]

## AD9834BRU
designator U?
20 mW Power, 2.3 V to 5.5 V, 75 MHz Complete DDS, 10-Bit, Serial, RU-20, 75 Tube; Master fclk: 75MHz; Resolution (Bits): 10bit; Tuning Word Width (bits): 28bit; REFCLK Multiplier: No; Compliance Range (V): 800mV; FS Iout (mA nom): 3mA; I Supply total (max): 8.7mA; DatasheetVersion: Rev. C; PackageVersion: 2000; PackageReference: RU-20; PackageDescription: 20-Lead Thin Shrink Small Outline Package [TSSOP]; I/O Interface: Serial; Code_JEDEC: MO-153AC; ComponentLink1Description: Manufacturer URL; ComponentLink1URL: www.analog.com; ComponentLink2Description: Datasheet; ComponentLink2URL: http://www.analog.com/static/imported-files/data_sheets/AD9834.pdf; ComponentLink3Description: Package Specification; ComponentLink3URL: http://www.analog.com/static/imported-files/packages/364515793657813558433715854054607941441RU20.pdf
footprint ADI-RU-20_N (TSOP, 20-Leads, Body 6.5x4.4mm, Pitch 0.65mm, IPC Medium Density)
footprint ADI-RU-20_L (TSOP, 20-Leads, Body 6.5x4.4mm, Pitch 0.65mm, IPC High Density)
footprint ADI-RU-20_M (TSOP, 20-Leads, Body 6.5x4.4mm, Pitch 0.65mm, IPC Low Density)
pins: 1 FSADJUST (in) "Full-Scale Adjust Control. A resistor (RSET) is connected between this pin and AGND. This determines the magnitude of the full-scale DAC current. [see datasheet]", 2 REFOUT (out) "Voltage Reference Output. The AD9834 has an internal 1.20 V reference that is made available at this pin.", 3 COMP "DAC Bias Pin. This pin is used for decoupling the DAC bias voltage.", 4 AVDD (power) "Positive Power Supply for the Analog Section. AVDD can have a value from 2.3 V to 5.5 V. A 0.1 uF decoupling capacitor should be connected between AVDD and AGND.", 5 DVDD (power) "Positive Power Supply for the Digital Section. DVDD can have a value from 2.3 V to 5.5 V. A 0.1 uF decoupling capacitor should be connected between DVDD and DGND.", 6 CAP/2.5V (power) "The digital circuitry operates from a 2.5 V power supply. This 2.5 V is generated from DVDD using an on-board regulator (when DVDD exceeds 2.7 V). [see datasheet]", 7 DGND (power) "Digital Ground.", 8 MCLK (in) "Digital Clock Input. DDS output frequencies are expressed as a binary fraction of the frequency of MCLK. The output frequency accuracy and phase noise are determined by this clock.", 9 FSELECT (in) "Frequency Select Input. FSELECT controls which frequency register, FREQ0 or FREQ1, is used in the phase accumulator. The frequency register to be used can be selected using Pin FSELECT or Bit FSEL. [see datasheet]", 10 PSELECT (in) "Phase Select Input. PSELECT controls which phase register, PHASE0 or PHASE1, is added to the phase accumulator output. The phase register to be used can be selected using Pin PSELECT or Bit PSEL. [see datasheet]", 11 RESET (in) "Active High Digital Input. RESET resets appropriate internal registers to zero; this corresponds to an analog output of midscale. RESET does not affect any of the addressable registers.", 12 SLEEP (in) "Active High Digital Input. When this pin is high, the DAC is powered down. This pin has the same function as Control Bit SLEEP12.", 13 SDATA (in) "Serial Data Input. The 16-bit serial data-word is applied to this input.", 14 SCLK (in) "Serial Clock Input. Data is clocked into the AD9834 on each falling SCLK edge.", 15 FSYNC (in) "Active Low Control Input. This is the frame synchronization signal for the input data. When FSYNC is taken low, the internal logic is informed that a new word is being loaded into the device.", 16 SIGN BIT OUT (out) "Logic Output. The comparator output is available on this pin or, alternatively, the MSB from the NCO can be output on this pin. Setting Bit OPBITEN in the control register to 1 enables this output pin. [see datasheet]", 17 VIN (in) "Input to Comparator. The comparator can be used to generate a square wave from the sinusoidal DAC output. The DAC output should be filtered appropriately before being applied to the comparator to improve jitter. [see datasheet]", 18 AGND (power) "Analog Ground.", 19 IOUT (out) "Current Output. This is a high impedance current source. A load resistor of nominally 200  ohm should be connected between IOUT and AGND. [see datasheet]", 20 IOUTB (out) "Current Output. This is a high impedance current source. A load resistor of nominally 200  ohm should be connected between IOUT and AGND. [see datasheet]"

## AD9834BRU-REEL
designator U?
20 mW Power, 2.3 V to 5.5 V, 75 MHz Complete DDS, 10-Bit, Serial, RU-20, 2500 Reel; Master fclk: 75MHz; Resolution (Bits): 10bit; Tuning Word Width (bits): 28bit; REFCLK Multiplier: No; Compliance Range (V): 800mV; FS Iout (mA nom): 3mA; I Supply total (max): 8.7mA; DatasheetVersion: Rev. C; PackageVersion: 2000; PackageReference: RU-20; PackageDescription: 20-Lead Thin Shrink Small Outline Package [TSSOP]; I/O Interface: Serial; Code_JEDEC: MO-153AC; ComponentLink1Description: Manufacturer URL; ComponentLink1URL: www.analog.com; ComponentLink2Description: Datasheet; ComponentLink2URL: http://www.analog.com/static/imported-files/data_sheets/AD9834.pdf; ComponentLink3Description: Package Specification; ComponentLink3URL: http://www.analog.com/static/imported-files/packages/364515793657813558433715854054607941441RU20.pdf
footprint ADI-RU-20_N (TSOP, 20-Leads, Body 6.5x4.4mm, Pitch 0.65mm, IPC Medium Density)
footprint ADI-RU-20_L (TSOP, 20-Leads, Body 6.5x4.4mm, Pitch 0.65mm, IPC High Density)
footprint ADI-RU-20_M (TSOP, 20-Leads, Body 6.5x4.4mm, Pitch 0.65mm, IPC Low Density)
pins: 1 FSADJUST (in) "Full-Scale Adjust Control. A resistor (RSET) is connected between this pin and AGND. This determines the magnitude of the full-scale DAC current. [see datasheet]", 2 REFOUT (out) "Voltage Reference Output. The AD9834 has an internal 1.20 V reference that is made available at this pin.", 3 COMP "DAC Bias Pin. This pin is used for decoupling the DAC bias voltage.", 4 AVDD (power) "Positive Power Supply for the Analog Section. AVDD can have a value from 2.3 V to 5.5 V. A 0.1 uF decoupling capacitor should be connected between AVDD and AGND.", 5 DVDD (power) "Positive Power Supply for the Digital Section. DVDD can have a value from 2.3 V to 5.5 V. A 0.1 uF decoupling capacitor should be connected between DVDD and DGND.", 6 CAP/2.5V (power) "The digital circuitry operates from a 2.5 V power supply. This 2.5 V is generated from DVDD using an on-board regulator (when DVDD exceeds 2.7 V). [see datasheet]", 7 DGND (power) "Digital Ground.", 8 MCLK (in) "Digital Clock Input. DDS output frequencies are expressed as a binary fraction of the frequency of MCLK. The output frequency accuracy and phase noise are determined by this clock.", 9 FSELECT (in) "Frequency Select Input. FSELECT controls which frequency register, FREQ0 or FREQ1, is used in the phase accumulator. The frequency register to be used can be selected using Pin FSELECT or Bit FSEL. [see datasheet]", 10 PSELECT (in) "Phase Select Input. PSELECT controls which phase register, PHASE0 or PHASE1, is added to the phase accumulator output. The phase register to be used can be selected using Pin PSELECT or Bit PSEL. [see datasheet]", 11 RESET (in) "Active High Digital Input. RESET resets appropriate internal registers to zero; this corresponds to an analog output of midscale. RESET does not affect any of the addressable registers.", 12 SLEEP (in) "Active High Digital Input. When this pin is high, the DAC is powered down. This pin has the same function as Control Bit SLEEP12.", 13 SDATA (in) "Serial Data Input. The 16-bit serial data-word is applied to this input.", 14 SCLK (in) "Serial Clock Input. Data is clocked into the AD9834 on each falling SCLK edge.", 15 FSYNC (in) "Active Low Control Input. This is the frame synchronization signal for the input data. When FSYNC is taken low, the internal logic is informed that a new word is being loaded into the device.", 16 SIGN BIT OUT (out) "Logic Output. The comparator output is available on this pin or, alternatively, the MSB from the NCO can be output on this pin. Setting Bit OPBITEN in the control register to 1 enables this output pin. [see datasheet]", 17 VIN (in) "Input to Comparator. The comparator can be used to generate a square wave from the sinusoidal DAC output. The DAC output should be filtered appropriately before being applied to the comparator to improve jitter. [see datasheet]", 18 AGND (power) "Analog Ground.", 19 IOUT (out) "Current Output. This is a high impedance current source. A load resistor of nominally 200  ohm should be connected between IOUT and AGND. [see datasheet]", 20 IOUTB (out) "Current Output. This is a high impedance current source. A load resistor of nominally 200  ohm should be connected between IOUT and AGND. [see datasheet]"

## AD9834BRU-REEL7
designator U?
20 mW Power, 2.3 V to 5.5 V, 75 MHz Complete DDS, 10-Bit, Serial, RU-20, 1000 Reel; Master fclk: 75MHz; Resolution (Bits): 10bit; Tuning Word Width (bits): 28bit; REFCLK Multiplier: No; Compliance Range (V): 800mV; FS Iout (mA nom): 3mA; I Supply total (max): 8.7mA; DatasheetVersion: Rev. C; PackageVersion: 2000; PackageReference: RU-20; PackageDescription: 20-Lead Thin Shrink Small Outline Package [TSSOP]; I/O Interface: Serial; Code_JEDEC: MO-153AC; ComponentLink1Description: Manufacturer URL; ComponentLink1URL: www.analog.com; ComponentLink2Description: Datasheet; ComponentLink2URL: http://www.analog.com/static/imported-files/data_sheets/AD9834.pdf; ComponentLink3Description: Package Specification; ComponentLink3URL: http://www.analog.com/static/imported-files/packages/364515793657813558433715854054607941441RU20.pdf
footprint ADI-RU-20_N (TSOP, 20-Leads, Body 6.5x4.4mm, Pitch 0.65mm, IPC Medium Density)
footprint ADI-RU-20_L (TSOP, 20-Leads, Body 6.5x4.4mm, Pitch 0.65mm, IPC High Density)
footprint ADI-RU-20_M (TSOP, 20-Leads, Body 6.5x4.4mm, Pitch 0.65mm, IPC Low Density)
pins: 1 FSADJUST (in) "Full-Scale Adjust Control. A resistor (RSET) is connected between this pin and AGND. This determines the magnitude of the full-scale DAC current. [see datasheet]", 2 REFOUT (out) "Voltage Reference Output. The AD9834 has an internal 1.20 V reference that is made available at this pin.", 3 COMP "DAC Bias Pin. This pin is used for decoupling the DAC bias voltage.", 4 AVDD (power) "Positive Power Supply for the Analog Section. AVDD can have a value from 2.3 V to 5.5 V. A 0.1 uF decoupling capacitor should be connected between AVDD and AGND.", 5 DVDD (power) "Positive Power Supply for the Digital Section. DVDD can have a value from 2.3 V to 5.5 V. A 0.1 uF decoupling capacitor should be connected between DVDD and DGND.", 6 CAP/2.5V (power) "The digital circuitry operates from a 2.5 V power supply. This 2.5 V is generated from DVDD using an on-board regulator (when DVDD exceeds 2.7 V). [see datasheet]", 7 DGND (power) "Digital Ground.", 8 MCLK (in) "Digital Clock Input. DDS output frequencies are expressed as a binary fraction of the frequency of MCLK. The output frequency accuracy and phase noise are determined by this clock.", 9 FSELECT (in) "Frequency Select Input. FSELECT controls which frequency register, FREQ0 or FREQ1, is used in the phase accumulator. The frequency register to be used can be selected using Pin FSELECT or Bit FSEL. [see datasheet]", 10 PSELECT (in) "Phase Select Input. PSELECT controls which phase register, PHASE0 or PHASE1, is added to the phase accumulator output. The phase register to be used can be selected using Pin PSELECT or Bit PSEL. [see datasheet]", 11 RESET (in) "Active High Digital Input. RESET resets appropriate internal registers to zero; this corresponds to an analog output of midscale. RESET does not affect any of the addressable registers.", 12 SLEEP (in) "Active High Digital Input. When this pin is high, the DAC is powered down. This pin has the same function as Control Bit SLEEP12.", 13 SDATA (in) "Serial Data Input. The 16-bit serial data-word is applied to this input.", 14 SCLK (in) "Serial Clock Input. Data is clocked into the AD9834 on each falling SCLK edge.", 15 FSYNC (in) "Active Low Control Input. This is the frame synchronization signal for the input data. When FSYNC is taken low, the internal logic is informed that a new word is being loaded into the device.", 16 SIGN BIT OUT (out) "Logic Output. The comparator output is available on this pin or, alternatively, the MSB from the NCO can be output on this pin. Setting Bit OPBITEN in the control register to 1 enables this output pin. [see datasheet]", 17 VIN (in) "Input to Comparator. The comparator can be used to generate a square wave from the sinusoidal DAC output. The DAC output should be filtered appropriately before being applied to the comparator to improve jitter. [see datasheet]", 18 AGND (power) "Analog Ground.", 19 IOUT (out) "Current Output. This is a high impedance current source. A load resistor of nominally 200  ohm should be connected between IOUT and AGND. [see datasheet]", 20 IOUTB (out) "Current Output. This is a high impedance current source. A load resistor of nominally 200  ohm should be connected between IOUT and AGND. [see datasheet]"

## AD9834BRUZ
designator U?
20 mW Power, 2.3 V to 5.5 V, 75 MHz Complete DDS, 10-Bit, Serial, RU-20, 75 Tube, Pb-Free; Master fclk: 75MHz; Resolution (Bits): 10bit; Tuning Word Width (bits): 28bit; REFCLK Multiplier: No; Compliance Range (V): 800mV; FS Iout (mA nom): 3mA; I Supply total (max): 8.7mA; DatasheetVersion: Rev. C; PackageVersion: 2000; PackageReference: RU-20; PackageDescription: 20-Lead Thin Shrink Small Outline Package [TSSOP]; I/O Interface: Serial; Code_JEDEC: MO-153AC; ComponentLink1Description: Manufacturer URL; ComponentLink1URL: www.analog.com; ComponentLink2Description: Datasheet; ComponentLink2URL: http://www.analog.com/static/imported-files/data_sheets/AD9834.pdf; ComponentLink3Description: Package Specification; ComponentLink3URL: http://www.analog.com/static/imported-files/packages/364515793657813558433715854054607941441RU20.pdf
footprint ADI-RU-20_N (TSOP, 20-Leads, Body 6.5x4.4mm, Pitch 0.65mm, IPC Medium Density)
footprint ADI-RU-20_L (TSOP, 20-Leads, Body 6.5x4.4mm, Pitch 0.65mm, IPC High Density)
footprint ADI-RU-20_M (TSOP, 20-Leads, Body 6.5x4.4mm, Pitch 0.65mm, IPC Low Density)
pins: 1 FSADJUST (in) "Full-Scale Adjust Control. A resistor (RSET) is connected between this pin and AGND. This determines the magnitude of the full-scale DAC current. [see datasheet]", 2 REFOUT (out) "Voltage Reference Output. The AD9834 has an internal 1.20 V reference that is made available at this pin.", 3 COMP "DAC Bias Pin. This pin is used for decoupling the DAC bias voltage.", 4 AVDD (power) "Positive Power Supply for the Analog Section. AVDD can have a value from 2.3 V to 5.5 V. A 0.1 uF decoupling capacitor should be connected between AVDD and AGND.", 5 DVDD (power) "Positive Power Supply for the Digital Section. DVDD can have a value from 2.3 V to 5.5 V. A 0.1 uF decoupling capacitor should be connected between DVDD and DGND.", 6 CAP/2.5V (power) "The digital circuitry operates from a 2.5 V power supply. This 2.5 V is generated from DVDD using an on-board regulator (when DVDD exceeds 2.7 V). [see datasheet]", 7 DGND (power) "Digital Ground.", 8 MCLK (in) "Digital Clock Input. DDS output frequencies are expressed as a binary fraction of the frequency of MCLK. The output frequency accuracy and phase noise are determined by this clock.", 9 FSELECT (in) "Frequency Select Input. FSELECT controls which frequency register, FREQ0 or FREQ1, is used in the phase accumulator. The frequency register to be used can be selected using Pin FSELECT or Bit FSEL. [see datasheet]", 10 PSELECT (in) "Phase Select Input. PSELECT controls which phase register, PHASE0 or PHASE1, is added to the phase accumulator output. The phase register to be used can be selected using Pin PSELECT or Bit PSEL. [see datasheet]", 11 RESET (in) "Active High Digital Input. RESET resets appropriate internal registers to zero; this corresponds to an analog output of midscale. RESET does not affect any of the addressable registers.", 12 SLEEP (in) "Active High Digital Input. When this pin is high, the DAC is powered down. This pin has the same function as Control Bit SLEEP12.", 13 SDATA (in) "Serial Data Input. The 16-bit serial data-word is applied to this input.", 14 SCLK (in) "Serial Clock Input. Data is clocked into the AD9834 on each falling SCLK edge.", 15 FSYNC (in) "Active Low Control Input. This is the frame synchronization signal for the input data. When FSYNC is taken low, the internal logic is informed that a new word is being loaded into the device.", 16 SIGN BIT OUT (out) "Logic Output. The comparator output is available on this pin or, alternatively, the MSB from the NCO can be output on this pin. Setting Bit OPBITEN in the control register to 1 enables this output pin. [see datasheet]", 17 VIN (in) "Input to Comparator. The comparator can be used to generate a square wave from the sinusoidal DAC output. The DAC output should be filtered appropriately before being applied to the comparator to improve jitter. [see datasheet]", 18 AGND (power) "Analog Ground.", 19 IOUT (out) "Current Output. This is a high impedance current source. A load resistor of nominally 200  ohm should be connected between IOUT and AGND. [see datasheet]", 20 IOUTB (out) "Current Output. This is a high impedance current source. A load resistor of nominally 200  ohm should be connected between IOUT and AGND. [see datasheet]"